# Altium footprint library WR-TBL_Pluggable Connector_7.62mm.PcbLib: 79 footprints (part 4 of 5)
Each footprint in its own frame and in the unit in brackets; x right, y up, seen from the top. Pads: shape width x height; smd on the part's side, far side on the other; paste and mask are expansions set on the pad; w line width, h text height; cw(c..) or ccw(c..) is an arc to the next point about the centre after c.
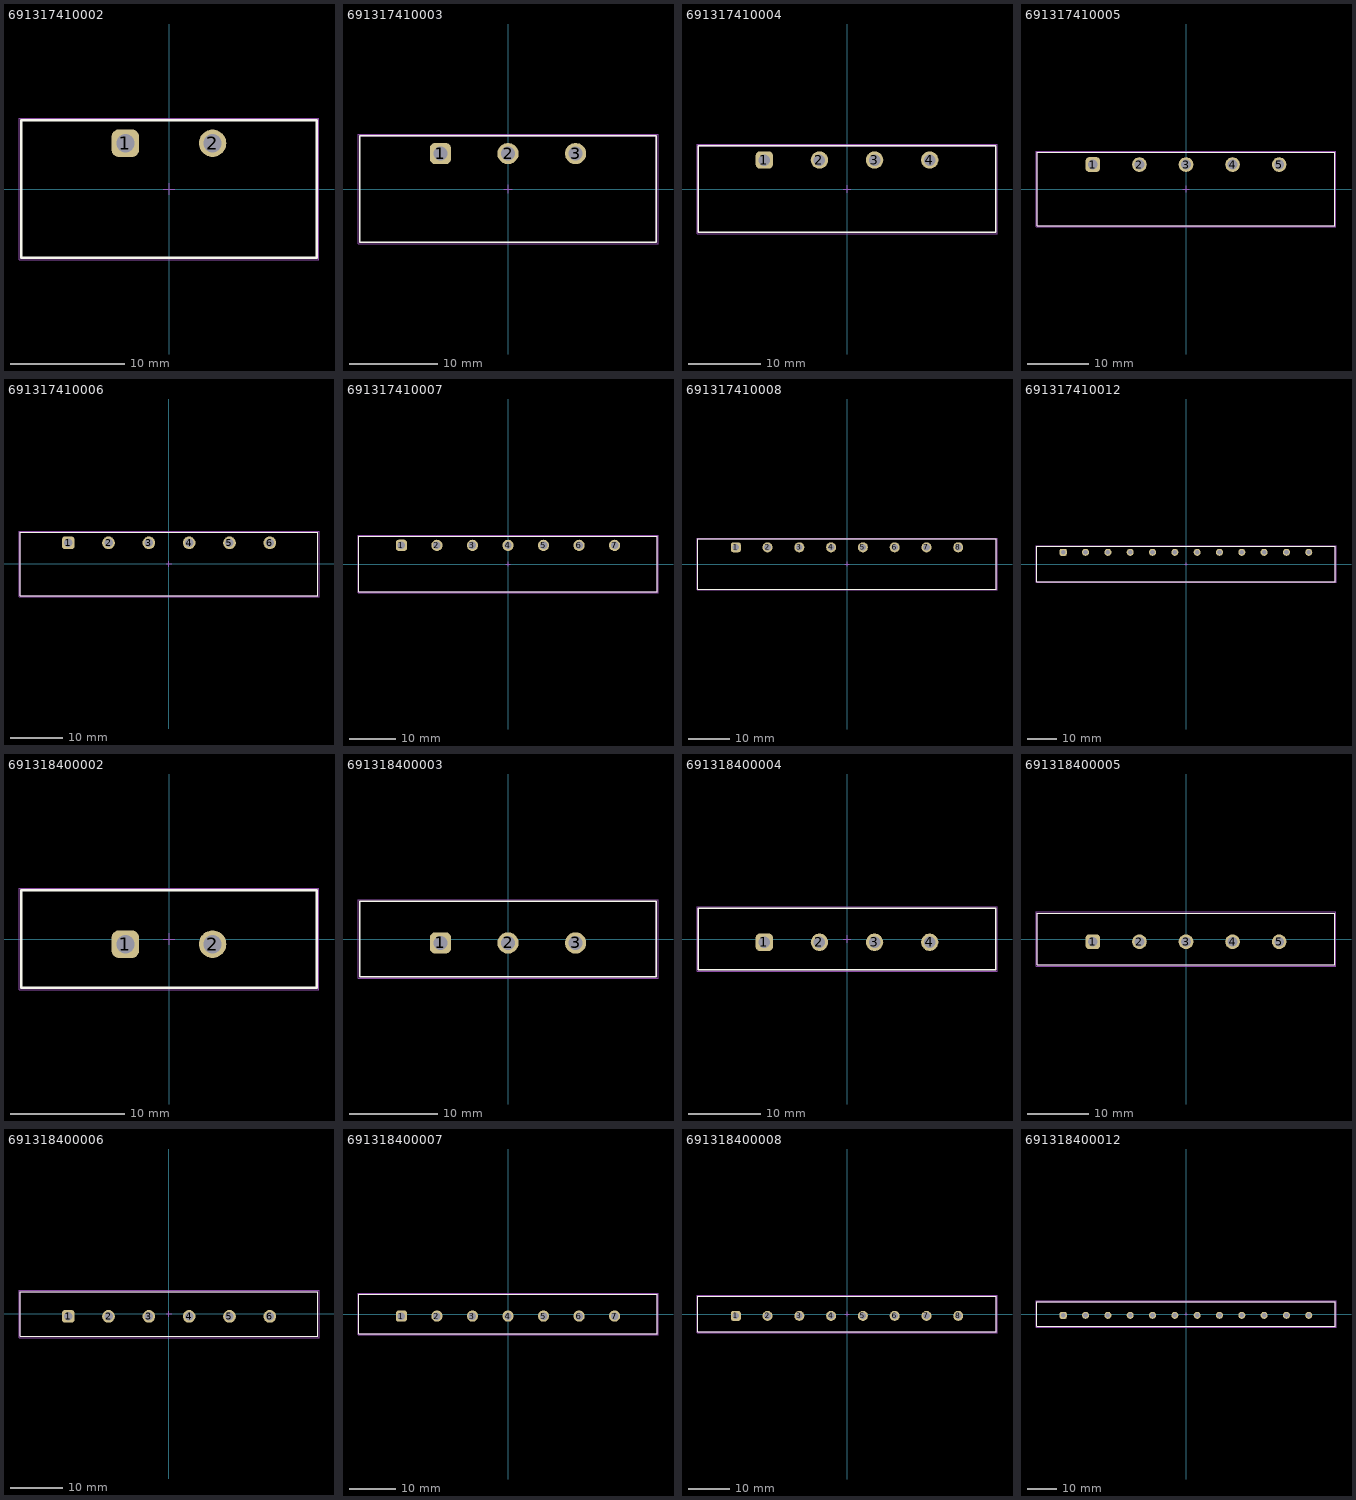
[diagram p3: the footprints below, top view; thin cyan lines are the x and y axes]

## 691317410002 [mm] "7.62 mm - Closed Horizonal PCB Header with Flanges - 2p"
height 8.5
pads (2):
  rrect50% 2.4x2.4 hole 1.6: 1(-3.81,4)
  round 2.4 hole 1.6: 2(3.81,4)
Top Overlay:
  lines w0.2: -12.91,-6 12.91,-6 12.91,6 -12.91,6 -12.91,-6
Top Assembly:
  lines w0.1: -12.91,-6 -12.91,6 12.91,6 12.91,-6 -12.91,-6
Top Designator:
  text ".Designator" at -3.647,-0.357 h1
Top 3D Body:
  lines w0.1: -12.91,-6 12.91,-6 12.91,6 -12.91,6 -12.91,-6
Top Courtyard:
  lines w0.05: -13.11,-6.2 13.11,-6.2 13.11,6.2 -13.11,6.2 -13.11,-6.2
Top Component Center:
  lines w0.1: -0.5,0 0.5,0 ; 0,-0.5 0,0.5
3D body "691317410002.stp": height 8.55, standoff -3.95, extent -12.91,-6 12.91,6

## 691317410003 [mm] "7.62 mm - Closed Horizonal PCB Header with Flanges - 3p"
height 8.5
pads (3):
  rrect50% 2.4x2.4 hole 1.6: 1(-7.62,4)
  round 2.4 hole 1.6: 2(0,4) 3(7.62,4)
Top Overlay:
  lines w0.2: -16.72,-6 -16.72,6 16.72,6 16.72,-6 -16.72,-6
Top Assembly:
  lines w0.1: -16.72,-6 16.72,-6 16.72,6 -16.72,6 -16.72,-6
Top Designator:
  text ".Designator" at -3.647,-0.357 h1
Top 3D Body:
  lines w0.1: -16.72,-6 -16.72,6 16.72,6 16.72,-6 -16.72,-6
Top Courtyard:
  lines w0.05: -16.92,-6.2 -16.92,6.2 16.92,6.2 16.92,-6.2 -16.92,-6.2
Top Component Center:
  lines w0.1: -0.5,0 0.5,0 ; 0,-0.5 0,0.5
3D body "691317410003.stp": height 8.55, standoff -3.95, extent -16.72,-6 16.72,6

## 691317410004 [mm] "7.62 mm - Closed Horizonal PCB Header with Flanges - 4p"
height 8.5
pads (4):
  rrect50% 2.4x2.4 hole 1.6: 1(-11.43,4)
  round 2.4 hole 1.6: 2(-3.81,4) 3(3.81,4) 4(11.43,4)
Top Overlay:
  lines w0.2: -20.53,-6 -20.53,6 20.53,6 20.53,-6 -20.53,-6
Top Assembly:
  lines w0.1: -20.53,-6 20.53,-6 20.53,6 -20.53,6 -20.53,-6
Top Designator:
  text ".Designator" at -3.647,-0.357 h1
Top 3D Body:
  lines w0.1: -20.53,-6 -20.53,6 20.53,6 20.53,-6 -20.53,-6
Top Courtyard:
  lines w0.05: -20.73,-6.2 -20.73,6.2 20.73,6.2 20.73,-6.2 -20.73,-6.2
Top Component Center:
  lines w0.1: -0.5,0 0.5,0 ; 0,-0.5 0,0.5
3D body "691317410004.stp": height 8.55, standoff -3.95, extent -20.53,-6 20.53,6

## 691317410005 [mm] "7.62 mm - Closed Horizonal PCB Header with Flanges - 5p"
height 8.5
pads (5):
  rrect50% 2.4x2.4 hole 1.6: 1(-15.24,4)
  round 2.4 hole 1.6: 2(-7.62,4) 3(0,4) 4(7.62,4) 5(15.24,4)
Top Overlay:
  lines w0.2: -24.34,-6 -24.34,6 24.34,6 24.34,-6 -24.34,-6
Top Assembly:
  lines w0.1: -24.34,-6 24.34,-6 24.34,6 -24.34,6 -24.34,-6
Top Designator:
  text ".Designator" at -3.647,-0.357 h1
Top 3D Body:
  lines w0.1: -24.34,-6 -24.34,6 24.34,6 24.34,-6 -24.34,-6
Top Courtyard:
  lines w0.05: -24.54,-6.2 -24.54,6.2 24.54,6.2 24.54,-6.2 -24.54,-6.2
Top Component Center:
  lines w0.1: -0.5,0 0.5,0 ; 0,-0.5 0,0.5
3D body "691317410005.stp": height 8.55, standoff -3.95, extent -24.34,-6 24.34,6

## 691317410006 [mm] "7.62 mm - Closed Horizonal PCB Header with Flanges - 6p"
height 8.5
pads (6):
  rrect50% 2.4x2.4 hole 1.6: 1(-19.05,4)
  round 2.4 hole 1.6: 2(-11.43,4) 3(-3.81,4) 4(3.81,4) 5(11.43,4) 6(19.05,4)
Top Overlay:
  lines w0.2: -28.15,-6 -28.15,6 28.15,6 28.15,-6 -28.15,-6
Top Assembly:
  lines w0.1: -28.15,-6 28.15,-6 28.15,6 -28.15,6 -28.15,-6
Top Designator:
  text ".Designator" at -3.647,-0.357 h1
Top 3D Body:
  lines w0.1: -28.15,-6 -28.15,6 28.15,6 28.15,-6 -28.15,-6
Top Courtyard:
  lines w0.05: -28.35,-6.2 -28.35,6.2 28.35,6.2 28.35,-6.2 -28.35,-6.2
Top Component Center:
  lines w0.1: -0.5,0 0.5,0 ; 0,-0.5 0,0.5
3D body "691317410006.stp": height 8.55, standoff -3.95, extent -28.15,-6 28.15,6

## 691317410007 [mm] "7.62 mm - Closed Horizonal PCB Header with Flanges - 7p"
height 8.5
pads (7):
  rrect50% 2.4x2.4 hole 1.6: 1(-22.86,4)
  round 2.4 hole 1.6: 2(-15.24,4) 3(-7.62,4) 4(0,4) 5(7.62,4) 6(15.24,4) 7(22.86,4)
Top Overlay:
  lines w0.2: -31.96,-6 31.96,-6 31.96,6 -31.96,6 -31.96,-6
Top Assembly:
  lines w0.1: -31.96,-6 -31.96,6 31.96,6 31.96,-6 -31.96,-6
Top Designator:
  text ".Designator" at -3.647,-0.357 h1
Top 3D Body:
  lines w0.1: -31.96,-6 31.96,-6 31.96,6 -31.96,6 -31.96,-6
Top Courtyard:
  lines w0.05: -32.16,-6.2 32.16,-6.2 32.16,6.2 -32.16,6.2 -32.16,-6.2
Top Component Center:
  lines w0.1: -0.5,0 0.5,0 ; 0,-0.5 0,0.5
3D body "691317410007.stp": height 8.55, standoff -3.95, extent -31.96,-6 31.96,6

## 691317410008 [mm] "7.62 mm - Closed Horizonal PCB Header with Flanges - 8p"
height 8.5
pads (8):
  rrect50% 2.4x2.4 hole 1.6: 1(-26.67,4)
  round 2.4 hole 1.6: 2(-19.05,4) 3(-11.43,4) 4(-3.81,4) 5(3.81,4) 6(11.43,4) 7(19.05,4) 8(26.67,4)
Top Overlay:
  lines w0.2: -35.77,-6 -35.77,6 35.77,6 35.77,-6 -35.77,-6
Top Assembly:
  lines w0.1: -35.77,-6 35.77,-6 35.77,6 -35.77,6 -35.77,-6
Top Designator:
  text ".Designator" at -3.647,-0.357 h1
Top 3D Body:
  lines w0.1: -35.77,-6 -35.77,6 35.77,6 35.77,-6 -35.77,-6
Top Courtyard:
  lines w0.05: -35.97,-6.2 -35.97,6.2 35.97,6.2 35.97,-6.2 -35.97,-6.2
Top Component Center:
  lines w0.1: -0.5,0 0.5,0 ; 0,-0.5 0,0.5
3D body "691317410008.stp": height 8.55, standoff -3.95, extent -35.77,-6 35.77,6

## 691317410012 [mm] "7.62 mm - Closed Horizonal PCB Header with Flanges - 12p"
height 8.5
pads (12):
  rrect50% 2.4x2.4 hole 1.6: 1(-41.91,4)
  round 2.4 hole 1.6: 2(-34.29,4) 3(-26.67,4) 4(-19.05,4) 5(-11.43,4) 6(-3.81,4) 7(3.81,4) 8(11.43,4) 9(19.05,4) 10(26.67,4) 11(34.29,4) 12(41.91,4)
Top Overlay:
  lines w0.2: -51.01,-6 -51.01,6 51.01,6 51.01,-6 -51.01,-6
Top Assembly:
  lines w0.1: -51.01,-6 51.01,-6 51.01,6 -51.01,6 -51.01,-6
Top Designator:
  text ".Designator" at -3.647,-0.357 h1
Top 3D Body:
  lines w0.1: -51.01,-6 -51.01,6 51.01,6 51.01,-6 -51.01,-6
Top Courtyard:
  lines w0.05: -51.21,-6.2 -51.21,6.2 51.21,6.2 51.21,-6.2 -51.21,-6.2
Top Component Center:
  lines w0.1: -0.5,0 0.5,0 ; 0,-0.5 0,0.5
3D body "691317410012.stp": height 8.55, standoff -3.95, extent -51.01,-6 51.01,6

## 691318400002 [mm] "7.62 mm - Closed Vertical PCB Header with Flanges - 2p"
height 12
pads (2):
  rrect50% 2.4x2.4 hole 1.6: 1(-3.81,-0.45)
  round 2.4 hole 1.6: 2(3.81,-0.45)
Top Overlay:
  lines w0.2: -12.91,-4.25 -12.91,4.25 12.91,4.25 12.91,-4.25 -12.91,-4.25
Top Assembly:
  lines w0.1: -12.91,-4.25 12.91,-4.25 12.91,4.25 -12.91,4.25 -12.91,-4.25
Top Designator:
  text ".Designator" at -3.647,-0.357 h1
Top 3D Body:
  lines w0.1: -12.91,-4.25 -12.91,4.25 12.91,4.25 12.91,-4.25 -12.91,-4.25
Top Courtyard:
  lines w0.05: -13.11,-4.45 13.11,-4.45 13.11,4.45 -13.11,4.45 -13.11,-4.45
Top Component Center:
  lines w0.1: -0.5,0 0.5,0 ; 0,-0.5 0,0.5
3D body "691318400002.stp": height 12.05, standoff -3.95, extent -12.91,-4.25 12.91,4.25

## 691318400003 [mm] "7.62 mm - Closed Vertical PCB Header with Flanges - 3p"
height 12
pads (3):
  rrect50% 2.4x2.4 hole 1.6: 1(-7.62,-0.45)
  round 2.4 hole 1.6: 2(0,-0.45) 3(7.62,-0.45)
Top Overlay:
  lines w0.2: -16.72,-4.25 -16.72,4.25 16.72,4.25 16.72,-4.25 -16.72,-4.25
Top Assembly:
  lines w0.1: -16.72,-4.25 16.72,-4.25 16.72,4.25 -16.72,4.25 -16.72,-4.25
Top Designator:
  text ".Designator" at -3.647,-0.357 h1
Top 3D Body:
  lines w0.1: -16.72,-4.25 -16.72,4.25 16.72,4.25 16.72,-4.25 -16.72,-4.25
Top Courtyard:
  lines w0.05: -16.92,-4.45 16.92,-4.45 16.92,4.45 -16.92,4.45 -16.92,-4.45
Top Component Center:
  lines w0.1: -0.5,0 0.5,0 ; 0,-0.5 0,0.5
3D body "691318400003.stp": height 12.05, standoff -3.95, extent -16.72,-4.25 16.72,4.25

## 691318400004 [mm] "7.62 mm - Closed Vertical PCB Header with Flanges - 4p"
height 12
pads (4):
  rrect50% 2.4x2.4 hole 1.6: 1(-11.43,-0.45)
  round 2.4 hole 1.6: 2(-3.81,-0.45) 3(3.81,-0.45) 4(11.43,-0.45)
Top Overlay:
  lines w0.2: -20.53,-4.25 20.53,-4.25 20.53,4.25 -20.53,4.25 -20.53,-4.25
Top Assembly:
  lines w0.1: -20.53,-4.25 -20.53,4.25 20.53,4.25 20.53,-4.25 -20.53,-4.25
Top Designator:
  text ".Designator" at -3.647,-0.357 h1
Top 3D Body:
  lines w0.1: -20.53,-4.25 20.53,-4.25 20.53,4.25 -20.53,4.25 -20.53,-4.25
Top Courtyard:
  lines w0.05: -20.73,-4.45 -20.73,4.45 20.73,4.45 20.73,-4.45 -20.73,-4.45
Top Component Center:
  lines w0.1: -0.5,0 0.5,0 ; 0,-0.5 0,0.5
3D body "691318400004.stp": height 12.05, standoff -3.95, extent -20.53,-4.25 20.53,4.25

## 691318400005 [mm] "7.62 mm - Closed Vertical PCB Header with Flanges - 5p"
height 12
pads (5):
  rrect50% 2.4x2.4 hole 1.6: 1(-15.24,-0.45)
  round 2.4 hole 1.6: 2(-7.62,-0.45) 3(0,-0.45) 4(7.62,-0.45) 5(15.24,-0.45)
Top Overlay:
  lines w0.2: -24.34,-4.25 24.34,-4.25 24.34,4.25 -24.34,4.25 -24.34,-4.25
Top Assembly:
  lines w0.1: -24.34,-4.25 -24.34,4.25 24.34,4.25 24.34,-4.25 -24.34,-4.25
Top Designator:
  text ".Designator" at -3.647,-0.357 h1
Top 3D Body:
  lines w0.1: -24.34,-4.25 24.34,-4.25 24.34,4.25 -24.34,4.25 -24.34,-4.25
Top Courtyard:
  lines w0.05: -24.54,-4.45 -24.54,4.45 24.54,4.45 24.54,-4.45 -24.54,-4.45
Top Component Center:
  lines w0.1: -0.5,0 0.5,0 ; 0,-0.5 0,0.5
3D body "691318400005.stp": height 12.05, standoff -3.95, extent -24.34,-4.25 24.34,4.25

## 691318400006 [mm] "7.62 mm - Closed Vertical PCB Header with Flanges - 6p"
height 12
pads (6):
  rrect50% 2.4x2.4 hole 1.6: 1(-19.05,-0.45)
  round 2.4 hole 1.6: 2(-11.43,-0.45) 3(-3.81,-0.45) 4(3.81,-0.45) 5(11.43,-0.45) 6(19.05,-0.45)
Top Overlay:
  lines w0.2: -28.15,-4.25 -28.15,4.25 28.15,4.25 28.15,-4.25 -28.15,-4.25
Top Assembly:
  lines w0.1: -28.15,-4.25 28.15,-4.25 28.15,4.25 -28.15,4.25 -28.15,-4.25
Top Designator:
  text ".Designator" at -3.647,-0.357 h1
Top 3D Body:
  lines w0.1: -28.15,-4.25 -28.15,4.25 28.15,4.25 28.15,-4.25 -28.15,-4.25
Top Courtyard:
  lines w0.05: -28.35,-4.45 28.35,-4.45 28.35,4.45 -28.35,4.45 -28.35,-4.45
Top Component Center:
  lines w0.1: -0.5,0 0.5,0 ; 0,-0.5 0,0.5
3D body "691318400006.stp": height 12.05, standoff -3.95, extent -28.15,-4.25 28.15,4.25

## 691318400007 [mm] "7.62 mm - Closed Vertical PCB Header with Flanges - 7p"
height 12
pads (7):
  rrect50% 2.4x2.4 hole 1.6: 1(-22.86,-0.45)
  round 2.4 hole 1.6: 2(-15.24,-0.45) 3(-7.62,-0.45) 4(0,-0.45) 5(7.62,-0.45) 6(15.24,-0.45) 7(22.86,-0.45)
Top Overlay:
  lines w0.2: -31.96,-4.25 31.96,-4.25 31.96,4.25 -31.96,4.25 -31.96,-4.25
Top Assembly:
  lines w0.1: -31.96,-4.25 -31.96,4.25 31.96,4.25 31.96,-4.25 -31.96,-4.25
Top Designator:
  text ".Designator" at -3.647,-0.357 h1
Top 3D Body:
  lines w0.1: -31.96,-4.25 31.96,-4.25 31.96,4.25 -31.96,4.25 -31.96,-4.25
Top Courtyard:
  lines w0.05: -32.16,-4.45 -32.16,4.45 32.16,4.45 32.16,-4.45 -32.16,-4.45
Top Component Center:
  lines w0.1: -0.5,0 0.5,0 ; 0,-0.5 0,0.5
3D body "691318400007.stp": height 12.05, standoff -3.95, extent -31.96,-4.25 31.96,4.25

## 691318400008 [mm] "7.62 mm - Closed Vertical PCB Header with Flanges - 8p"
height 12
pads (8):
  rrect50% 2.4x2.4 hole 1.6: 1(-26.67,-0.45)
  round 2.4 hole 1.6: 2(-19.05,-0.45) 3(-11.43,-0.45) 4(-3.81,-0.45) 5(3.81,-0.45) 6(11.43,-0.45) 7(19.05,-0.45) 8(26.67,-0.45)
Top Overlay:
  lines w0.2: -35.77,-4.25 35.77,-4.25 35.77,4.25 -35.77,4.25 -35.77,-4.25
Top Assembly:
  lines w0.1: -35.77,-4.25 -35.77,4.25 35.77,4.25 35.77,-4.25 -35.77,-4.25
Top Designator:
  text ".Designator" at -3.647,-0.357 h1
Top 3D Body:
  lines w0.1: -35.77,-4.25 35.77,-4.25 35.77,4.25 -35.77,4.25 -35.77,-4.25
Top Courtyard:
  lines w0.05: -35.97,-4.45 -35.97,4.45 35.97,4.45 35.97,-4.45 -35.97,-4.45
Top Component Center:
  lines w0.1: -0.5,0 0.5,0 ; 0,-0.5 0,0.5
3D body "691318400008.stp": height 12.05, standoff -3.95, extent -35.77,-4.25 35.77,4.25

## 691318400012 [mm] "7.62 mm - Closed Vertical PCB Header with Flanges - 12p"
height 12
pads (12):
  rrect50% 2.4x2.4 hole 1.6: 1(-41.91,-0.45)
  round 2.4 hole 1.6: 2(-34.29,-0.45) 3(-26.67,-0.45) 4(-19.05,-0.45) 5(-11.43,-0.45) 6(-3.81,-0.45) 7(3.81,-0.45) 8(11.43,-0.45) 9(19.05,-0.45) 10(26.67,-0.45) 11(34.29,-0.45) 12(41.91,-0.45)
Top Overlay:
  lines w0.2: -51.01,-4.25 -51.01,4.25 51.01,4.25 51.01,-4.25 -51.01,-4.25
Top Assembly:
  lines w0.1: -51.01,-4.25 51.01,-4.25 51.01,4.25 -51.01,4.25 -51.01,-4.25
Top Designator:
  text ".Designator" at -3.647,-0.357 h1
Top 3D Body:
  lines w0.1: -51.01,-4.25 -51.01,4.25 51.01,4.25 51.01,-4.25 -51.01,-4.25
Top Courtyard:
  lines w0.05: -51.21,-4.45 51.21,-4.45 51.21,4.45 -51.21,4.45 -51.21,-4.45
Top Component Center:
  lines w0.1: -0.5,0 0.5,0 ; 0,-0.5 0,0.5
3D body "691318400012.stp": height 12.05, standoff -3.95, extent -51.01,-4.25 51.01,4.25